# Altium schematic symbol library LM5156H-Q1.Schlib: 1 symbol
Pins are listed as number, name and electrical type; pins without a type are passive.

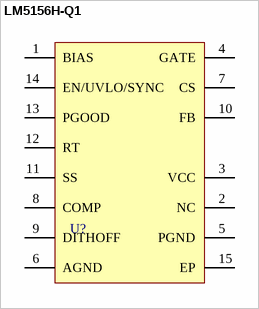
[diagram p0: symbol LM5156H-Q1]

## LM5156H-Q1
designator U?
65-V Non-synchronous Boost/SEPIC/Flyback
pins: 1 BIAS, 2 NC, 3 VCC (power), 4 GATE, 5 PGND (power), 6 AGND, 7 CS, 8 COMP, 9 DITHOFF, 10 FB, 11 SS, 12 RT, 13 PGOOD, 14 EN/UVLO/SYNC, 15 EP (power)